# Altium schematic symbol library Res_Bourns_3314J-1-502E_eec.SchLib: 1 symbol
Pins are listed as number, name and electrical type; pins without a type are passive.

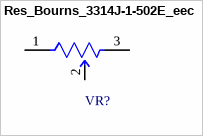
[diagram p0: symbol Res_Bourns_3314J-1-502E_eec]

## Res_Bourns_3314J-1-502E_eec
designator VR?
RES TRIMMER 5K OHM 0.25W SMD; Part Number: 3314J-1-502E; Manufacturer: Bourns; Resistance: 5kΩ; Voltage: 300V; Value: 5kΩ; Tolerance: ±20%; Power: 250mW; helpURL: https://upverter.com/upn/revision/ee7f8c46c162ac80/; ComponentLink2Description: Datasheet; Temperature: -55°C to +125°C; Package: SMT_3314; Supplier 2: Mouser; Price: 1.40325397727; Supplier 1: Digi-Key; ComponentLink1URL: https://upverter.com/upn/revision/ee7f8c46c162ac80/; Supplier Part Number 2: 652-3314J-1-502E; Supplier Part Number 1: 3314J-502ECT-ND; ComponentLink1Description: Upverter; ComponentLink2URL: http://www.bourns.com/docs/Product-Datasheets/3314.pdf; RoHS: TRUE; Mouser Part Number: 652-3314J-1-502E; Temperature Range High: +125°C; Digikey Description: RES TRIMMER 5K OHM 0.25W SMD; Digikey Part Number: 3314J-502ECT-ND; Lead Free: yes; Temperature Range Low: -55°C; Mounting Type: surface mount
footprint Bourns_3314J-1-502E_0
pins: 1 CCW, 2 WIPER, 3 CW